# Altium footprint library Capacitors_rus.PCBLIB: 349 footprints (part 12 of 22)
Each footprint in its own frame and in the unit in brackets; x right, y up, seen from the top. Pads: shape width x height; smd on the part's side, far side on the other; paste and mask are expansions set on the pad; w line width, h text height; cw(c..) or ccw(c..) is an arc to the next point about the centre after c.
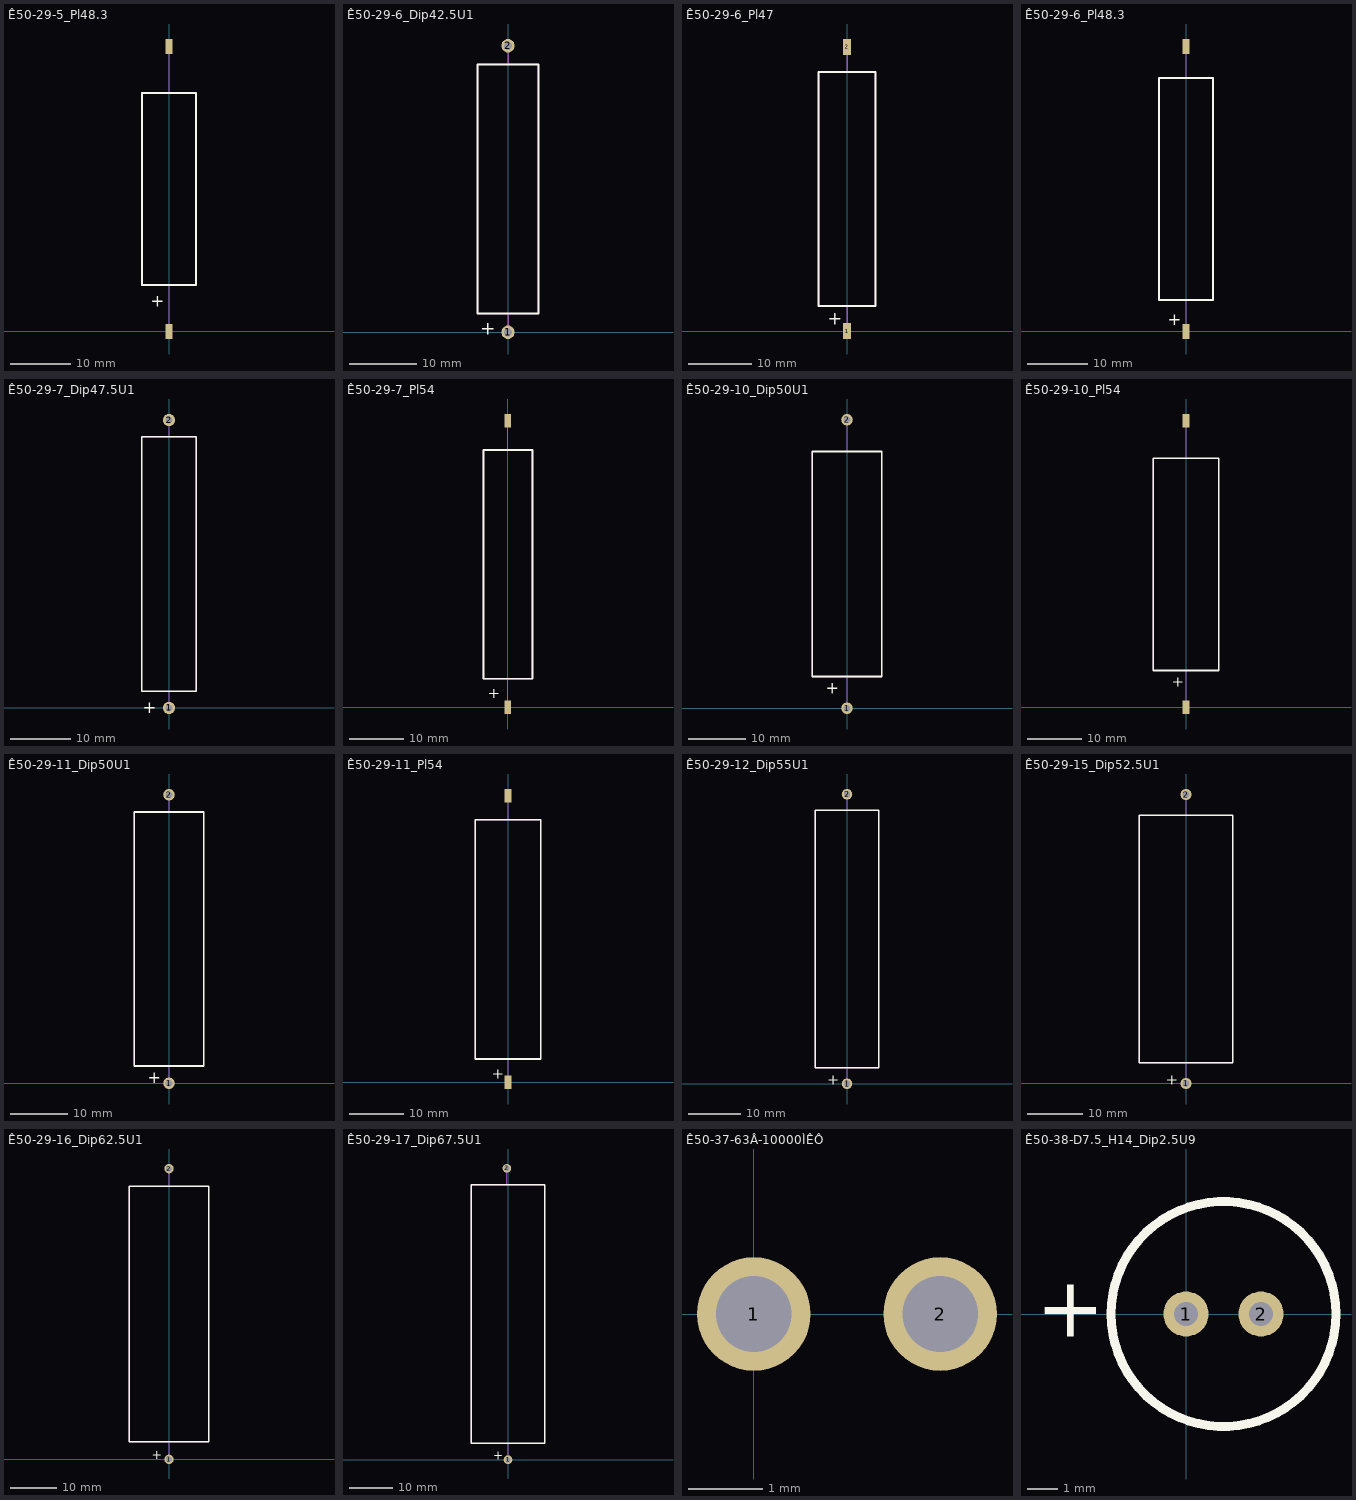
[diagram p11: the footprints below, top view; thin cyan lines are the x and y axes]

## Ê50-29-5_Pl48.3 [mm]
height 9
pads (2):
  rect 1.2x2.5 smd: 1(0,0) 2(0,47.5)
Top Overlay:
  lines w0.3: -4.5,7.75 -4.5,39.75 4.5,39.75 4.5,7.75 -4.5,7.75
  text "+" at -3.08,4.145 h2
Mechanical 1:
  lines w0.2: 0,-0.4 0,7.78 ; 0,39.73 0,47.9 ; -4.5,7.75 -4.5,39.75 4.5,39.75 4.5,7.75 -4.5,7.75
  text ".Designator" at -1.25,21.2 h1.5
  text ".Comment" at 2.15,19.35 h1.5
  text "+" at -0.5,8.75 h1.5

## Ê50-29-6_Dip42.5U1 [mm]
height 9
pads (2):
  round 2 hole 1.2: 1(0,0) 2(0,42.5)
Top Overlay:
  lines w0.3: -4.5,2.75 4.5,2.75 4.5,39.75 -4.5,39.75 ; -4.49,2.75 -4.49,39.75
  text "+" at -4.105,-0.38 h2
Mechanical 1:
  lines w0.2: -4.5,2.74 4.5,2.75 4.5,39.75 -4.5,39.75 -4.5,2.75 ; 0,0 0,2.78 ; 0,39.73 0,42.5
  text ".Designator" at -1.4,19.85 h1.5
  text ".Comment" at 2,18 h1.5
  text "+" at -0.25,3.75 h1.5

## Ê50-29-6_Pl47 [mm]
height 9
pads (2):
  rect 1.2x2.5 smd: 1(0,0) 2(0,45)
Top Overlay:
  lines w0.3: -4.5,4 4.5,4 4.5,41 -4.5,41 -4.5,4
  text "+" at -3.031,1 h2
Mechanical 1:
  lines w0.2: 0,-1 0,4.03 ; 0,40.98 0,46 ; -4.5,4 4.5,4 4.5,41 -4.5,41 -4.5,4
  text ".Designator" at -1.5,20.55 h1.5
  text ".Comment" at 1.9,18.7 h1.5
  text "+" at -0.5,4.75 h1.5

## Ê50-29-6_Pl48.3 [mm]
height 9
pads (2):
  rect 1.2x2.5 smd: 1(0,0) 2(0,47.5)
Top Overlay:
  lines w0.3: -4.5,5.25 -4.5,42.25 4.5,42.25 4.5,5.25 -4.5,5.25
  text "+" at -3.08,1.02 h2
Mechanical 1:
  lines w0.2: 0,-0.4 0,5.25 ; 0,42.23 0,47.9 ; -4.5,5.25 -4.5,42.25 4.5,42.25 4.5,5.25 -4.5,5.25
  text ".Designator" at -1.35,21.4 h1.5
  text ".Comment" at 2.05,19.55 h1.5
  text "+" at -0.25,6 h1.5

## Ê50-29-7_Dip47.5U1 [mm]
height 9
pads (2):
  round 2 hole 1.2: 1(0,0) 2(0,47.5)
Top Overlay:
  lines w0.3: -4.5,2.75 -4.5,44.75 4.5,44.75 4.5,2.75 -4.5,2.75
  text "+" at -4.33,-0.855 h2
Mechanical 1:
  lines w0.2: 0,0 0,2.78 ; 0,44.73 0,47.5 ; -4.5,2.72 -4.5,44.75 4.5,44.75 4.5,2.75 -4.5,2.72
  text "+" at -0.25,4 h1.5
  text ".Comment" at 2.1,19.9 h1.5
  text ".Designator" at -1.3,21.75 h1.5

## Ê50-29-7_Pl54 [mm]
height 9
pads (2):
  rect 1.2x2.5 smd: 1(0,0) 2(0,52.62)
Top Overlay:
  lines w0.3: 4.5,5.24 -4.5,5.25 -4.5,47.25 4.5,47.25 ; 4.5,5.25 4.51,47.25
  text "+" at -3.705,1.645 h2
Mechanical 1:
  lines w0.2: 0,-0.75 0,5.27 ; 0,47.23 0,53.25 ; 4.5,47.24 -4.5,47.25 -4.5,5.25 4.5,5.25 4.5,47.25
  text "+" at -0.25,6.5 h1.5
  text ".Comment" at 2.25,23.6 h1.5
  text ".Designator" at -1.15,25.45 h1.5

## Ê50-29-10_Dip50U1 [mm]
height 12.5
pads (2):
  round 2 hole 1.2: 1(0,0) 2(0,50)
Top Overlay:
  lines w0.3: -6,5.5 6,5.5 6,44.5 -6,44.5 -6,5.5
  text "+" at -3.705,2.52 h2
Mechanical 1:
  lines w0.2: 0,0 0,5.5 ; 0,44.5 0,50 ; -6,5.5 6,5.5 6,44.5 -6,44.5 -6,5.5
  text "+" at -0.25,6.5 h1.5
  text ".Comment" at 1.9,21.5 h1.5
  text ".Designator" at -1.5,23.35 h1.5

## Ê50-29-10_Pl54 [mm]
height 12.5
pads (2):
  rect 1.2x2.5 smd: 1(0,0) 2(0,52.62)
Top Overlay:
  lines w0.3: -6,6.75 6,6.75 6,45.75 -6,45.75 -6,6.75
  text "+" at -2.656,3.75 h2
Mechanical 1:
  lines w0.2: 0,-0.75 0,6.75 ; 0,45.75 0,53.25 ; -6,6.75 6,6.75 6,45.75 -6,45.75 -6,6.75
  text "+" at -0.25,7.5 h1.5
  text ".Comment" at 1.9,22.6 h1.5
  text ".Designator" at -1.5,24.45 h1.5

## Ê50-29-11_Dip50U1 [mm]
height 12.5
pads (2):
  round 2 hole 1.2: 1(0,0) 2(0,50)
Top Overlay:
  lines w0.3: -6,3 6,3 6,47 -6,47 -6,3
  text "+" at -3.705,0.02 h2
Mechanical 1:
  lines w0.2: 0,0 0,3 ; 0,47 0,50 ; -6,3 6,3 6,47 -6,47 -6,3
  text ".Designator" at -1.75,22.9 h1.5
  text ".Comment" at 1.65,21.05 h1.5
  text "+" at -0.25,4 h1.5

## Ê50-29-11_Pl54 [mm]
height 12.5
pads (2):
  rect 1.2x2.5 smd: 1(0,0) 2(0,52.62)
Top Overlay:
  lines w0.3: -6,4.25 -6,48.25 6,48.25 6,4.25 -6,4.25
  text "+" at -3.031,0.625 h2
Mechanical 1:
  lines w0.2: 0,-0.75 0,4.25 ; 0,48.25 0,53.25 ; -6,4.25 -6,48.25 6,48.25 6,4.25 -6,4.25
  text "+" at -0.25,5.25 h1.5
  text ".Comment" at 2,22.5 h1.5
  text ".Designator" at -1.4,24.35 h1.5

## Ê50-29-12_Dip55U1 [mm]
height 12.5
pads (2):
  round 2 hole 1.2: 1(0,0) 2(0,55)
Top Overlay:
  lines w0.3: -6,3 -6,52 6,52 6,3 -6,3
  text "+" at -3.705,-0.23 h2
Mechanical 1:
  lines w0.2: 0,0 0,3 ; 0,52 0,55 ; -6,3 -6,52 6,52 6,3 -6,3
  text ".Designator" at -1.9,25.55 h1.5
  text ".Comment" at 1.5,23.7 h1.5
  text "+" at -0.25,4 h1.5

## Ê50-29-15_Dip52.5U1 [mm]
height 17.5
pads (2):
  round 2 hole 1.2: 1(0,0) 2(0,52.5)
Top Overlay:
  lines w0.3: -8.5,3.75 -8.5,48.75 8.5,48.75 8.5,3.75 -8.5,3.75
  text "+" at -3.705,-0.23 h2
Mechanical 1:
  lines w0.2: 0,0 0,3.75 ; 0,48.75 0,52.5 ; -8.5,3.75 -8.5,48.75 8.5,48.75 8.5,3.75 -8.5,3.75
  text "+" at -0.25,4.75 h1.5
  text ".Comment" at 1.75,22.25 h1.5
  text ".Designator" at -1.65,24.1 h1.5

## Ê50-29-16_Dip62.5U1 [mm]
height 17.5
pads (2):
  round 2 hole 1.2: 1(0,0) 2(0,62.5)
Top Overlay:
  lines w0.3: -8.5,3.75 -8.5,58.75 8.5,58.75 8.5,3.75 -8.5,3.75
  text "+" at -3.705,0.02 h2
Mechanical 1:
  lines w0.2: 0,0 0,3.75 ; 0,58.75 0,62.5 ; -8.5,3.75 -8.5,58.75 8.5,58.75 8.5,3.75 -8.5,3.75
  text "+" at -0.25,5.25 h1.5
  text ".Comment" at 1.95,27.45 h1.5
  text ".Designator" at -1.45,29.3 h1.5

## Ê50-29-17_Dip67.5U1 [mm]
height 17.5
pads (2):
  round 2 hole 1.2: 1(0,0) 2(-0.25,67.5)
Top Overlay:
  lines w0.3: -8.5,3.75 8.5,3.75 8.5,63.75 -8.5,63.75 -8.5,3.75
  text "+" at -3.455,0.02 h2
Mechanical 1:
  lines w0.2: -0.25,63.75 -0.25,67.5 ; 0,0 0,3.75 ; -8.5,3.75 8.5,3.75 8.5,63.75 -8.5,63.75 -8.5,3.75
  text ".Designator" at -1.55,31.45 h1.5
  text ".Comment" at 1.85,29.6 h1.5
  text "+" at -0.25,5 h1.5

## Ê50-37-63Â-10000ÌÊÔ [mil]
pads (2):
  round 60 hole 40: 1(0,0) 2(98.43,0)
Mechanical 1:
  text "+" at -9.84,39.37 h59.06
  text ".Designator" at 39.37,59.06 h59.06

## Ê50-38-D7.5_H14_Dip2.5U9 [mm]
height 14
pads (2):
  round 1.5 hole 0.8: 1(0,0) 2(2.5,0)
Top Overlay:
  circle w0.3: c1.25,0 r3.75
  text "+" at -5,-0.75 h2
Mechanical 1:
  circle w0.2: c1.25,0 r3.75
  text ".Designator" at 0.1,-0.35 h1.5
  text "+" at -1.25,-0.5 h1.5